# EAGLE library part LED_MATRIX (library fehlendeTeile)
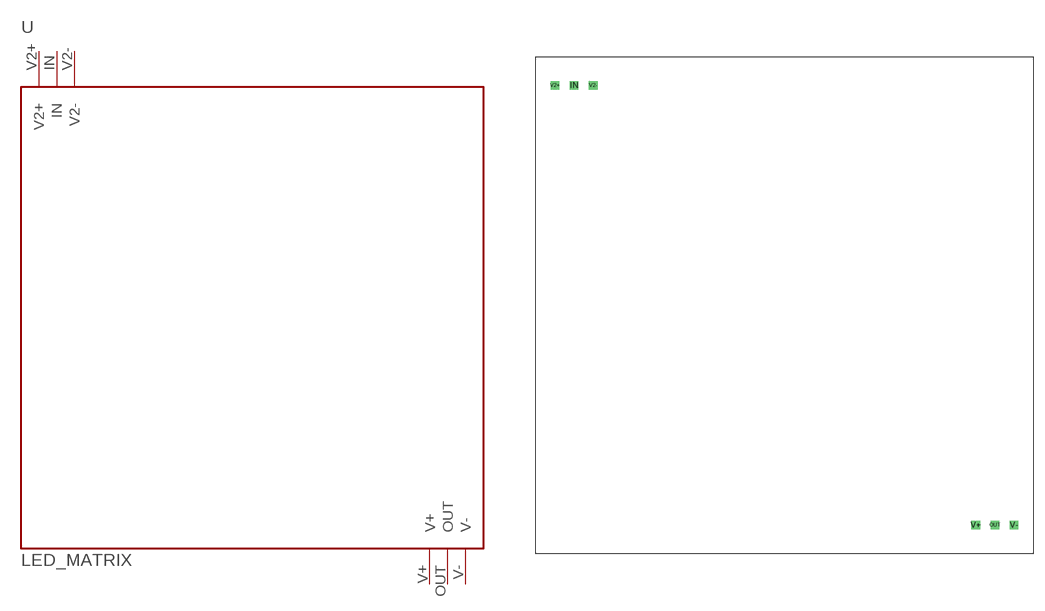
[diagram p0: symbol with the pads of LED_MATRIX; footprint LED_MATRIX]

Designator prefix -

## LED_MATRIX  [LED_MATRIX]
IN  IN
OUT  OUT
V2+  V2+
V2-  V2-
V+  V+
V-  V-

## Footprint LED_MATRIX (pad centres in mm)
drill 0.65 square: IN 5.08,62.23; OUT 60.96,3.81; V2+ 2.54,62.23; V2- 7.62,62.23; V+ 58.42,3.81; V- 63.5,3.81